# EAGLE library part ADS1232 (library pepin)
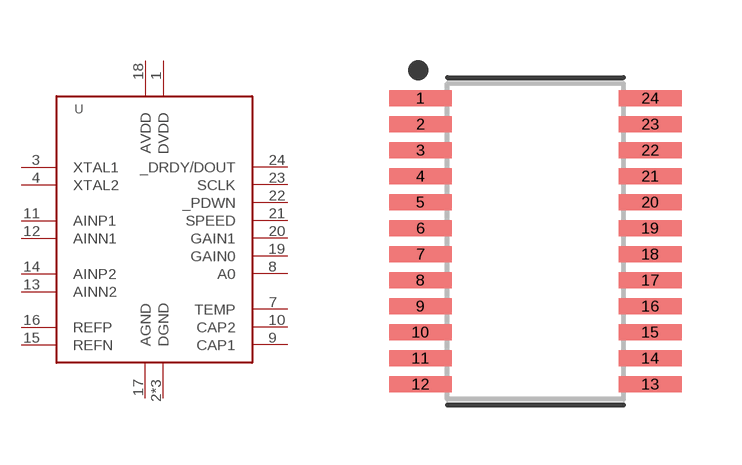
[diagram p6: symbol with the pads of SOP65P640X120-24; footprint SOP65P640X120-24]

Designator prefix U

## ADS1232  [SOP65P640X120-24]
1  DVDD  pwr
2  DGND  pwr
3  XTAL1
4  XTAL2
5  DGND  pwr
6  DGND  pwr
7  TEMP
8  A0
9  CAP1
10  CAP2
11  AINP1
12  AINN1
13  AINN2
14  AINP2
15  REFN
16  REFP
17  AGND  pwr
18  AVDD  pwr
19  GAIN0
20  GAIN1
21  SPEED
22  _PDWN
23  SCLK
24  _DRDY/DOUT

## Footprint SOP65P640X120-24 (pad centres in mm)
24-SOP, 0.65 mm pitch, 6.40 mm span, 7.80 X 4.35 X 1.20 mm body 24-pin SOP package with 0.65 mm pitch, 6.40 mm span with body size 7.80 X 4.35 X 1.20 mm
smd 1.572 x 0.407: 1 -2.872,3.575; 2 -2.872,2.925; 3 -2.872,2.275; 4 -2.872,1.625; 5 -2.872,0.975; 6 -2.872,0.325; 7 -2.872,-0.325; 8 -2.872,-0.975; 9 -2.872,-1.625; 10 -2.872,-2.275; 11 -2.872,-2.925; 12 -2.872,-3.575; 13 2.872,-3.575; 14 2.872,-2.925; 15 2.872,-2.275; 16 2.872,-1.625; 17 2.872,-0.975; 18 2.872,-0.325; 19 2.872,0.325; 20 2.872,0.975; 21 2.872,1.625; 22 2.872,2.275; 23 2.872,2.925; 24 2.872,3.575